# EAGLE library part PM61300 (library inductor-jwmiller)
CCFL Inverter Transformer
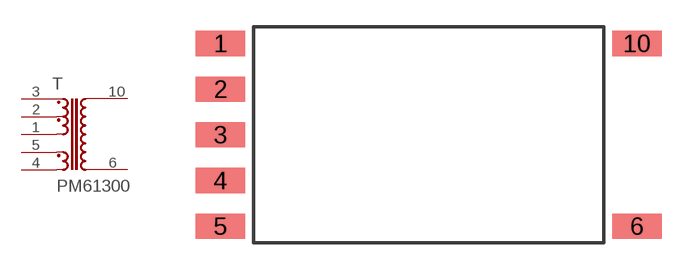
[diagram p0: symbol with the pads of PM61300; footprint PM61300]

Designator prefix T

## PM61300  [PM61300]
1  1  pas
2  2  pas
3  3  pas
4  4  pas
5  5  pas
6  6  pas
10  10  pas

## Footprint PM61300 (pad centres in mm)
CCFL Inverter Transformer
smd 2.75 x 1.4: 1 -11.58,5.08; 2 -11.58,2.54; 3 -11.58,0; 4 -11.58,-2.54; 5 -11.58,-5.08; 6 11.58,-5.08; 10 11.58,5.08